# Altium footprint library SHENZHEN-CHUANGQIN-TECHNOLOGY_CQ-USB-C16PSMT01.PcbLib: 1 footprints
Each footprint in its own frame and in the unit in brackets; x right, y up, seen from the top. Pads: shape width x height; smd on the part's side, far side on the other; paste and mask are expansions set on the pad; w line width, h text height; cw(c..) or ccw(c..) is an arc to the next point about the centre after c.
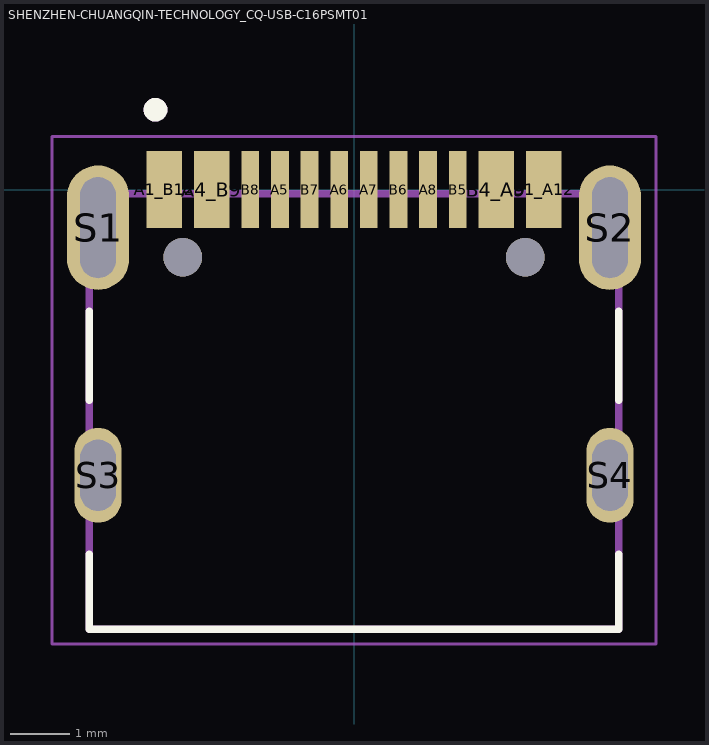
[diagram p0: the footprint, top view; thin cyan lines are the x and y axes]

## SHENZHEN-CHUANGQIN-TECHNOLOGY_CQ-USB-C16PSMT01 [mm]
pads (18):
  rect 0.6x1.3 smd: A1_B12(-3.2,0) A4_B9(-2.4,0) B1_A12(3.2,0) B4_A9(2.4,0)
  rect 0.3x1.3 smd: A5(-1.25,0) A6(-0.25,0) A7(0.25,0) A8(1.25,0) B5(1.75,0) B6(0.75,0) B7(-0.75,0) B8(-1.75,0)
  oval 1.05x2.1 hole 0.6 slot 1.7 at 90 deg: S1(-4.32,-0.64) S2(4.32,-0.64)
  oval 0.8x1.6 hole 0.6 slot 1.2 at 90 deg: S3(-4.32,-4.82) S4(4.32,-4.82)
  round 0.65 hole 0.65 unplated: ""(-2.89,-1.14) ""(2.89,-1.14)
Top Overlay:
  circle w0.2: c-3.35,1.35 r0.1
  lines w0.127: -4.47,-6.15 -4.47,-7.42 4.47,-7.42 4.47,-6.15 ; -4.47,-3.55 -4.47,-2.05 ; 4.47,-3.55 4.47,-2.05
Mechanical 13:
  circle w0.2: c-3.35,1.35 r0.1
  lines w0.127: -4.47,-7.42 -4.47,-0.07 4.47,-0.07 4.47,-7.42 -4.47,-7.42
Mechanical 15:
  lines w0.05: -5.095,-7.67 -5.095,0.9 5.095,0.9 5.095,-7.67 -5.095,-7.67
3D body "step_temp.STEP": height 3.26, standoff -0.8, extent -4.47,-3.905 4.47,3.905